# Altium footprint library IRF640.PcbLib: 4 footprints
Each footprint in its own frame and in the unit in brackets; x right, y up, seen from the top. Pads: shape width x height; smd on the part's side, far side on the other; paste and mask are expansions set on the pad; w line width, h text height; cw(c..) or ccw(c..) is an arc to the next point about the centre after c.
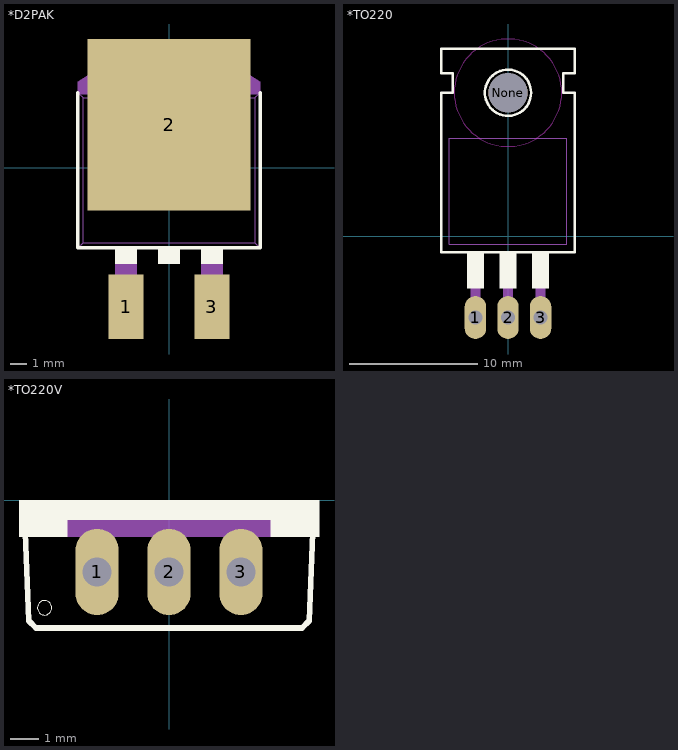
[diagram p0: the footprints below, top view; thin cyan lines are the x and y axes]

## *D2PAK [mm]
pads (3):
  rect 2.08x3.81 smd: 1(-2.54,-8.255) 3(2.54,-8.255)
  rect 9.652x10.16 smd: 2(0,2.54)
Top Overlay:
  region: -0.635,-4.762 0.635,-4.762 0.635,-5.715 -0.635,-5.715
  region: 1.905,-4.763 3.175,-4.763 3.175,-5.715 1.905,-5.715
  region: -3.175,-4.763 -1.905,-4.763 -1.905,-5.715 -3.175,-5.715
  lines w0.203: -5.397,4.445 -5.397,-4.763 5.397,-4.763 5.397,4.445
Mechanical 13:
  region: -5.397,4.445 -5.397,5.08 -4.445,5.715 4.445,5.715 5.397,5.08 5.397,4.445
  region: 1.905,-5.715 3.175,-5.715 3.175,-7.62 1.905,-7.62
  region: -3.175,-5.715 -1.905,-5.715 -1.905,-7.62 -3.175,-7.62
  region: -5.397,4.445 -5.397,5.08 -4.445,5.715 4.445,5.715 5.397,5.08 5.397,4.445
  region: 1.905,-5.715 3.175,-5.715 3.175,-7.62 1.905,-7.62
  region: -3.175,-5.715 -1.905,-5.715 -1.905,-7.62 -3.175,-7.62
  lines w0.051: -5.08,-4.445 -5.397,-4.763 -5.08,-4.445 ; -5.08,-4.445 5.08,-4.445 ; -5.08,-4.445 -5.08,4.127 ; -5.08,-4.445 5.08,-4.445 ; -5.08,-4.445 -5.08,4.127 ; -5.08,4.127 -5.397,4.445 -5.08,4.127 ; -5.08,4.127 5.08,4.127 ; -5.08,4.127 5.08,4.127 ; 5.08,-4.445 5.397,-4.763 5.08,-4.445 ; 5.08,-4.445 5.08,4.127 ; 5.08,-4.445 5.08,4.127 ; 5.08,4.127 5.397,4.445 5.08,4.127
  lines w0.203: -5.397,4.445 5.397,4.445 -5.397,4.445
  text "2" at -0.318,1.973 h1.88
  text "3" at 2.222,-4.06 h1.88
  text "1" at -2.857,-4.06 h1.88
  text "2" at -0.318,1.973 h1.88
  text "3" at 2.222,-4.06 h1.88
  text "1" at -2.857,-4.06 h1.88

## *TO220 [mil]
pads (4):
  oval 66x132 hole 44: 1(-100,-250) 2(0,-250) 3(100,-250)
  round 120 hole 120 unplated: None(0,440)
Top Overlay:
  circle w8: c0,440 r71
  region: 75,-50 125,-50 125,-160 75,-160
  region: -25,-50 25,-50 25,-160 -25,-160
  region: -125,-50 -75,-50 -75,-160 -125,-160
  lines w8: -205,-50 -205,440 -170,440 -170,500 -205,500 -205,575 205,575 205,500 170,500 170,440 205,440 205,-50 -205,-50
Keep-Out Layer:
  circle w0: c0,440 r165
  circle w0: c0,440 r165
  circle w0: c0,440 r165
  circle w0: c0,440 r165
  circle w0: c0,440 r165
  circle w0: c0,440 r165
Mechanical 13:
  region: 85,-185 115,-185 115,-260 85,-260
  region: -15,-185 15,-185 15,-260 -15,-260
  region: -115,-185 -85,-185 -85,-260 -115,-260
  region: -115,-160 -85,-160 -85,-185 -115,-185
  region: -15,-160 15,-160 15,-185 -15,-185
  region: 85,-160 115,-160 115,-185 85,-185
  region: 85,-185 115,-185 115,-260 85,-260
  region: -15,-185 15,-185 15,-260 -15,-260
  region: -115,-185 -85,-185 -85,-260 -115,-260
  region: -115,-160 -85,-160 -85,-185 -115,-185
  region: -15,-160 15,-160 15,-185 -15,-185
  region: 85,-160 115,-160 115,-185 85,-185
  lines w2: -180,-25 -180,300 ; -180,-25 180,-25 ; -180,-25 -180,300 ; -180,-25 180,-25 ; -180,300 180,300 ; -180,300 180,300 ; 180,-25 180,300 ; 180,-25 180,300
  text "3" at 75,-9.84 h73.82
  text "2" at -25,-9.84 h73.82
  text "1" at -125,-9.84 h73.82
  text "3" at 75,-9.84 h73.82
  text "2" at -25,-9.84 h73.82
  text "1" at -125,-9.84 h73.82

## *TO220V [mil]
pads (3):
  oval 60x120 hole 40: 1(-100,-100) 2(0,-100) 3(100,-100)
Top Overlay:
  circle w0: c-173.06,-149.94 r10
  region: 141.73,-27.56 208.66,-27.56 208.66,-51.18 141.73,-51.18
  region: -208.66,-27.56 -141.73,-27.56 -141.73,-51.18 -208.66,-51.18
  region: -208.66,0 208.66,0 208.66,-27.56 -208.66,-27.56
  lines w8: -200,-45 -195,-167.87 -185,-177.87 185,-177.87 195,-167.87 200,-45
Mechanical 13:
  region: -141.73,-27.56 141.73,-27.56 141.73,-51.18 -141.73,-51.18
  region: -141.73,-27.56 141.73,-27.56 141.73,-51.18 -141.73,-51.18
  text "3" at 75,-134.84 h73.82
  text "2" at -25,-134.84 h73.82
  text "1" at -125,-134.84 h73.82
  text "3" at 75,-134.84 h73.82
  text "2" at -25,-134.84 h73.82
  text "1" at -125,-134.84 h73.82

## PCBComponent_1 [mil]